# EAGLE library part NRF52832-QFAA-R (library Common-Parts-Library-Eagle)
Bluetooth SMART SOC IoT 2000Mbps 48-Pin QFN EP T/R
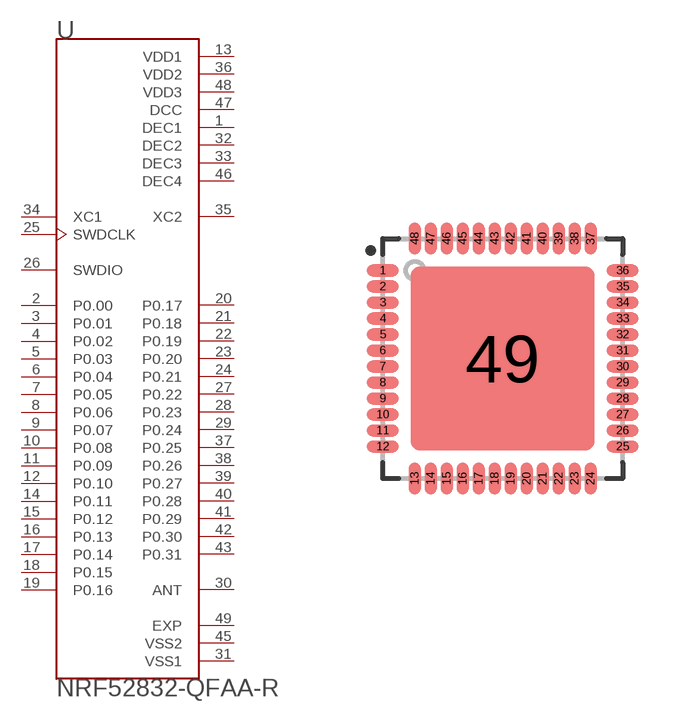
[diagram p48: symbol with the pads of QFN40P600X600X90-49N; footprint QFN40P600X600X90-49N]

Designator prefix U

## NRF52832-QFAA-R (MANUFACTURER: Nordic Semiconductor)  [QFN40P600X600X90-49N]
1  DEC1  pwr
2  P0.00
3  P0.01
4  P0.02
5  P0.03
6  P0.04
7  P0.05
8  P0.06
9  P0.07
10  P0.08
11  P0.09
12  P0.10
13  VDD1  pwr
14  P0.11
15  P0.12
16  P0.13
17  P0.14
18  P0.15
19  P0.16
20  P0.17
21  P0.18
22  P0.19
23  P0.20
24  P0.21
25  SWDCLK  in
26  SWDIO
27  P0.22
28  P0.23
29  P0.24
30  ANT  pas
31  VSS1  pwr
32  DEC2  pwr
33  DEC3  pwr
34  XC1  in
35  XC2  out
36  VDD2  pwr
37  P0.25
38  P0.26
39  P0.27
40  P0.28
41  P0.29
42  P0.30
43  P0.31
45  VSS2  pwr
46  DEC4  pwr
47  DCC  pwr
48  VDD3  pwr
49  EXP  pwr

## Footprint QFN40P600X600X90-49N (pad centres in mm)
smd 0.8 x 0.3: 1 -3,2.2; 2 -3,1.8; 3 -3,1.4; 4 -3,1; 5 -3,0.6; 6 -3,0.2; 7 -3,-0.2; 8 -3,-0.6; 9 -3,-1; 10 -3,-1.4; 11 -3,-1.8; 12 -3,-2.2; 25 3,-2.2; 26 3,-1.8; 27 3,-1.4; 28 3,-1; 29 3,-0.6; 30 3,-0.2; 31 3,0.2; 32 3,0.6; 33 3,1; 34 3,1.4; 35 3,1.8; 36 3,2.2
smd 0.3 x 0.8: 13 -2.2,-3; 14 -1.8,-3; 15 -1.4,-3; 16 -1,-3; 17 -0.6,-3; 18 -0.2,-3; 19 0.2,-3; 20 0.6,-3; 21 1,-3; 22 1.4,-3; 23 1.8,-3; 24 2.2,-3; 37 2.2,3; 38 1.8,3; 39 1.4,3; 40 1,3; 41 0.6,3; 42 0.2,3; 43 -0.2,3; 44 -0.6,3; 45 -1,3; 46 -1.4,3; 47 -1.8,3; 48 -2.2,3
smd 4.6 x 4.6: 49 0,0